# Altium integrated library Freescale MPC5200.IntLib: 10 symbols (part 2 of 2)
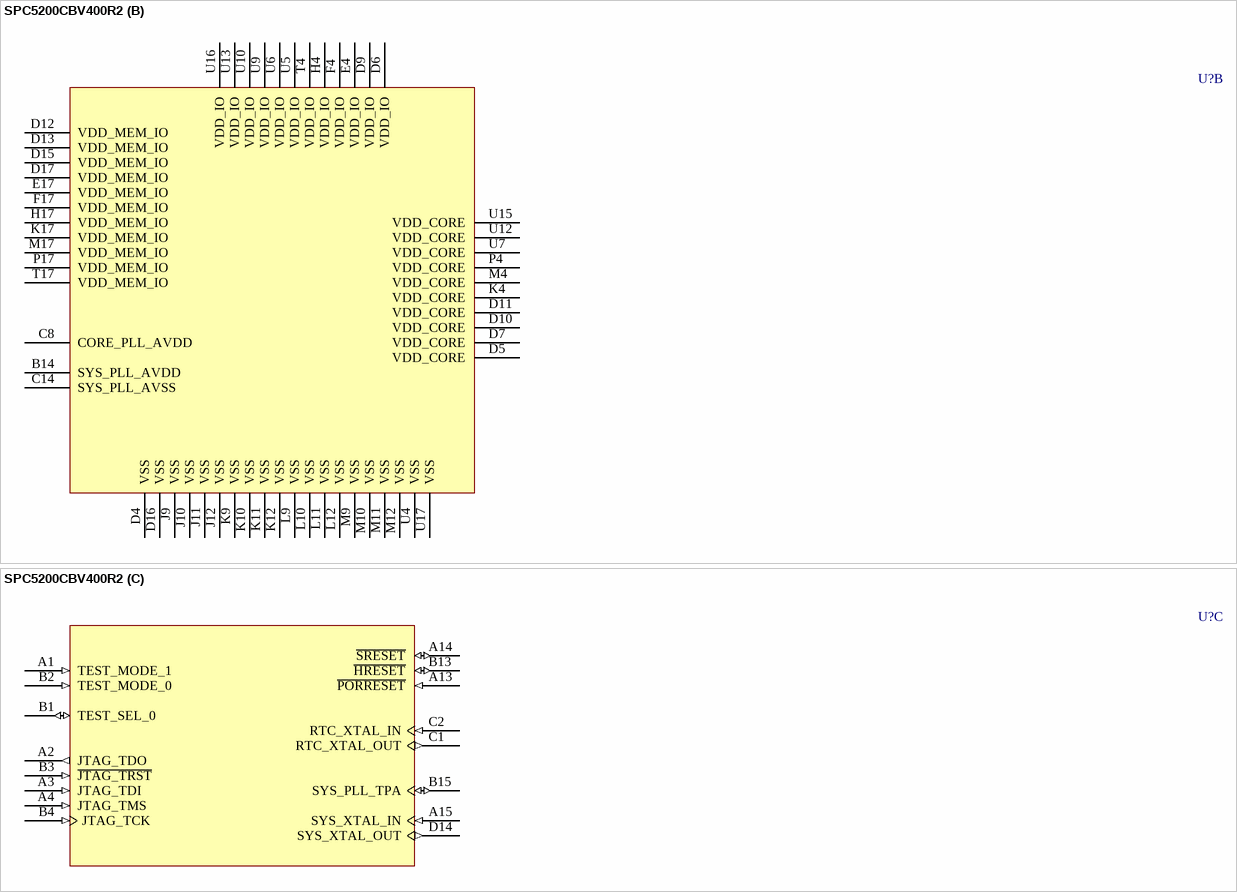
[diagram p20: symbol SPC5200CBV400R2]

## SPC5200CBV400R2
designator U?
32-Bit MPC5200 Embedded PowerPC Processor; Published: 6-Oct-2005; DatasheetVersion: rev4, Jan-2005; PackageVersion: revF, Apr-2005; PackageReference: 1135A-02; Publisher: Altium Limited; PackageDescription: 272-Ball Plastic Ball Grid Array - Thermally Enhanced; Code_JEDEC: MS-034-BAL-2; ComponentLink1Description: Manufacturer Link; ComponentLink1URL: http://www.freescale.com/webapp/sps/site/prod_summary.jsp?code=MPC5200&nodeId=0162468rH3bTdG0898; ComponentLink2Description: Datasheet; ComponentLink2URL: http://www.freescale.com/files/microcontrollers/doc/data_sheet/MPC5200.pdf; ComponentLink3Description: Packaging Specification; ComponentLink3URL: http://www.freescale.com/files/shared/doc/package_info/98ASS23712W.pdf
footprint 1135A-02 (BGA, 272-Leads, Body 27x27mm, Pitch 1.27mm)
part A pins: A5 PSC3_8 (io), A6 PSC3_5 (io), A7 PSC3_2 (io), A8 PSC2_4 (io), A9 PSC2_2 (io), A10 PSC1_4 (io), A11 PSC1_1 (io), A12 PSC6_2 (io), A16 MEM_MA_1 (out), A17 MEM_MBA_1 (out), A18 ~{MEM_RAS} (out), A19 ~{MEM_WE} (out), A20 MEM_DQM_2 (out), B5 PSC3_7 (io), B6 PSC3_4 (io), B7 PSC3_1 (io), B8 PSC2_3 (io), B9 PSC2_1 (io), B10 PSC1_3 (io), B11 PSC1_0 (io), B12 PSC6_0 (io), B16 MEM_MA_2 (out), B17 MEM_MA_10 (out), B18 ~{MEM_CS_0} (out), B19 ~{MEM_CAS} (out), B20 MEM_MA_4 (out), C3 TEST_SEL_1 (in), C4 PSC3_9 (io), C5 PSC3_6 (io), C6 PSC3_3 (io), C7 PSC3_0 (io), C9 PSC2_0 (io), C10 PSC1_2 (io), C11 PSC6_1 (io), C12 GPIO_WKUP_7 (io), C13 PSC6_3 (io), C15 GPIO_WKUP_6 (io), C16 MEM_MA_3 (out), C17 MEM_MA_0 (out), C18 MEM_MBA_0 (out), C19 MEM_MA_5 (out), C20 MEM_MA_6 (out), D1 TIMER_4 (io), D2 TIMER_3 (io), D3 TIMER_2 (io), D8 ~{LP_OE} (out), D18 MEM_MDQS_2 (out), D19 MEM_MA_7 (out), D20 MEM_MA_8 (out), E1 TIMER_7 (io), E2 TIMER_6 (io), E3 TIMER_5 (io), E18 MEM_MDQ_16 (io), E19 MEM_MA_9 (out), E20 MEM_MA_11 (out), F1 USB_7 (io), F2 USB_8 (io), F3 USB_9 (io), F18 MEM_MDQ_17 (io), F19 MEM_MA_12 (out), F20 MEM_CLK_EN (out), G1 USB_3 (in), G2 USB_4 (in), G3 USB_5 (in), G4 USB_6 (io), G17 MEM_MDQ_18 (io), G18 MEM_MDQ_19 (io), G19 MEM_MEMCLK (out), G20 ~{MEM_MEMCLK} (out), H1 USB_0 (io), H2 USB_1 (io), H3 USB_2 (io), H18 MEM_MDQ_20 (io), H19 MEM_DQM_1 (out), H20 MEM_MDQS_1 (out), J1 ETH_3 (io), J2 ETH_4 (io), J3 ETH_10 (io), J4 ETH_17 (io), J17 MEM_MDQ_22 (io), J18 MEM_MDQ_21 (io), J19 MEM_MDQ_8 (io), J20 MEM_MDQ_9 (io), K1 ETH_0 (io), K2 ETH_1 (io), K3 ETH_2 (io), K18 MEM_MDQ_23 (io), K19 MEM_MDQ_10 (io), K20 MEM_MDQ_11 (io), L1 ETH_9 (io), L2 ETH_16 (io), L3 ETH_5 (io), L4 ETH_11 (io), L17 MEM_DQM_3 (out), L18 MEM_MDQS_3 (out), L19 MEM_MDQ_12 (io), L20 MEM_MDQ_13 (io), M1 ETH_13 (io), M2 ETH_12 (io), M3 ETH_8 (io), M18 MEM_MDQ_24 (io), M19 MEM_MDQ_14 (io), M20 MEM_MDQ_15 (io), N1 ETH_7 (io), N2 ETH_6 (io), N3 ETH_15 (io), N4 ETH_14 (io), N17 MEM_MDQ_25 (io), N18 MEM_MDQ_26 (io), N19 MEM_DQM_0 (out), N20 MEM_MDQS_0 (out), P1 ~{IRQ_1} (in), P2 ~{IRQ_2} (in), P3 ~{IRQ_0} (in), P18 MEM_MDQ_27 (io), P19 MEM_MDQ_7 (io), P20 MEM_MDQ_6 (io), R1 ~{IRQ_3} (in), R2 ~{PCI_RESET} (out), R3 EXT_AD_30 (io), R4 ~{PCI_GNT} (out), R17 MEM_MDQ_28 (io), R18 MEM_MDQ_29 (io), R19 MEM_MDQ_5 (io), R20 MEM_MDQ_4 (io), T1 PCI_CLOCK (out), T2 EXT_AD_26 (io), T3 EXT_AD_28 (io), T18 MEM_MDQ_30 (io), T19 MEM_MDQ_3 (io), T20 MEM_MDQ_2 (io), U1 ~{PCI_REQ} (in), U2 PCI_IDSEL (in), U3 EXT_AD_24 (io), U8 EXT_AD_15 (io), U11 EXT_AD_6 (io), U14 LP_ACK (in), U18 MEM_MDQ_31 (io), U19 MEM_MDQ_1 (io), U20 MEM_MDQ_0 (io), V1 EXT_AD_31 (io), V2 EXT_AD_20 (io), V3 EXT_AD_22 (io), V4 EXT_AD_18 (io), V5 ~{PCI_FRAME} (io), V6 ~{PCI_STOP} (io), V7 PCI_PAR (io), V8 EXT_AD_13 (io), V9 EXT_AD_11 (io), V10 EXT_AD_9 (io), V11 EXT_AD_4 (io), V12 EXT_AD_2 (io), V13 EXT_AD_0 (io), V14 ~{LP_ALE} (io), V15 ~{LP_CS2} (out), V16 ~{LP_CS5} (out), V17 ATA_DRQ (in), V18 TIMER1 (io), V19 I2C_0 (io), V20 I2C_2 (io), W1 EXT_AD_29 (io), W2 EXT_AD_25 (io), W3 EXT_AD_23 (io), W4 EXT_AD_16 (io), W5 ~{PCI_TRDY} (io), W6 ~{PCI_C/BE_2} (io), W7 ~{PCI_DEVSEL} (io), W8 ~{PCI_SERR} (io), W9 EXT_AD_14 (io), W10 ~{PCI_C/BE_0} (io), W11 EXT_AD_8 (io), W12 EXT_AD_5 (io), W13 EXT_AD_1 (io), W14 ~{LP_CS0} (out), W15 ~{LP_CS3} (out), W16 ~{LP_RW} (io), W17 ~{ATA_IOW} (io), W18 ATA_IOCHDRY (in), W19 I2C_1 (io), W20 I2C_3 (io), Y1 EXT_AD_27 (io), Y2 ~{PCI_C/BE_3} (io), Y3 EXT_AD_21 (io), Y4 EXT_AD_19 (io), Y5 EXT_AD_17 (io), Y6 ~{PCI_IRDY} (io), Y7 ~{PCI_PERR} (io), Y8 ~{PCI_C/BE_1} (io), Y9 EXT_AD_12 (io), Y10 EXT_AD_10 (io), Y11 EXT_AD_7 (io), Y12 EXT_AD_3 (io), Y13 ~{LP_TS} (io), Y14 ~{LP_CS1} (out), Y15 ~{LP_CS4} (out), Y16 ATA_ISOLATION (out), Y17 ~{ATA_IOR} (io), Y18 ~{ATA_DACK} (io), Y19 ATA_INTRQ (in), Y20 TIMER_0 (io)
part B pins: B14 SYS_PLL_AVDD (power), C8 CORE_PLL_AVDD (power), C14 SYS_PLL_AVSS (power), D4 VSS (power), D5 VDD_CORE (power), D6 VDD_IO (power), D7 VDD_CORE (power), D9 VDD_IO (power), D10 VDD_CORE (power), D11 VDD_CORE (power), D12 VDD_MEM_IO (power), D13 VDD_MEM_IO (power), D15 VDD_MEM_IO (power), D16 VSS (power), D17 VDD_MEM_IO (power), E4 VDD_IO (power), E17 VDD_MEM_IO (power), F4 VDD_IO (power), F17 VDD_MEM_IO (power), H4 VDD_IO (power), H17 VDD_MEM_IO (power), J9 VSS (power), J10 VSS (power), J11 VSS (power), J12 VSS (power), K4 VDD_CORE (power), K9 VSS (power), K10 VSS (power), K11 VSS (power), K12 VSS (power), K17 VDD_MEM_IO (power), L9 VSS (power), L10 VSS (power), L11 VSS (power), L12 VSS (power), M4 VDD_CORE (power), M9 VSS (power), M10 VSS (power), M11 VSS (power), M12 VSS (power), M17 VDD_MEM_IO (power), P4 VDD_CORE (power), P17 VDD_MEM_IO (power), T4 VDD_IO (power), T17 VDD_MEM_IO (power), U4 VSS (power), U5 VDD_IO (power), U6 VDD_IO (power), U7 VDD_CORE (power), U9 VDD_IO (power), U10 VDD_IO (power), U12 VDD_CORE (power), U13 VDD_IO (power), U15 VDD_CORE (power), U16 VDD_IO (power), U17 VSS (power)
part C pins: A1 TEST_MODE_1 (in), A2 JTAG_TDO (out), A3 JTAG_TDI (in), A4 JTAG_TMS (in), A13 ~{PORRESET} (in), A14 ~{SRESET} (io), A15 SYS_XTAL_IN (in), B1 TEST_SEL_0 (io), B2 TEST_MODE_0 (in), B3 ~{JTAG_TRST} (in), B4 JTAG_TCK (in), B13 ~{HRESET} (io), B15 SYS_PLL_TPA (io), C1 RTC_XTAL_OUT (out), C2 RTC_XTAL_IN (in), D14 SYS_XTAL_OUT (out)

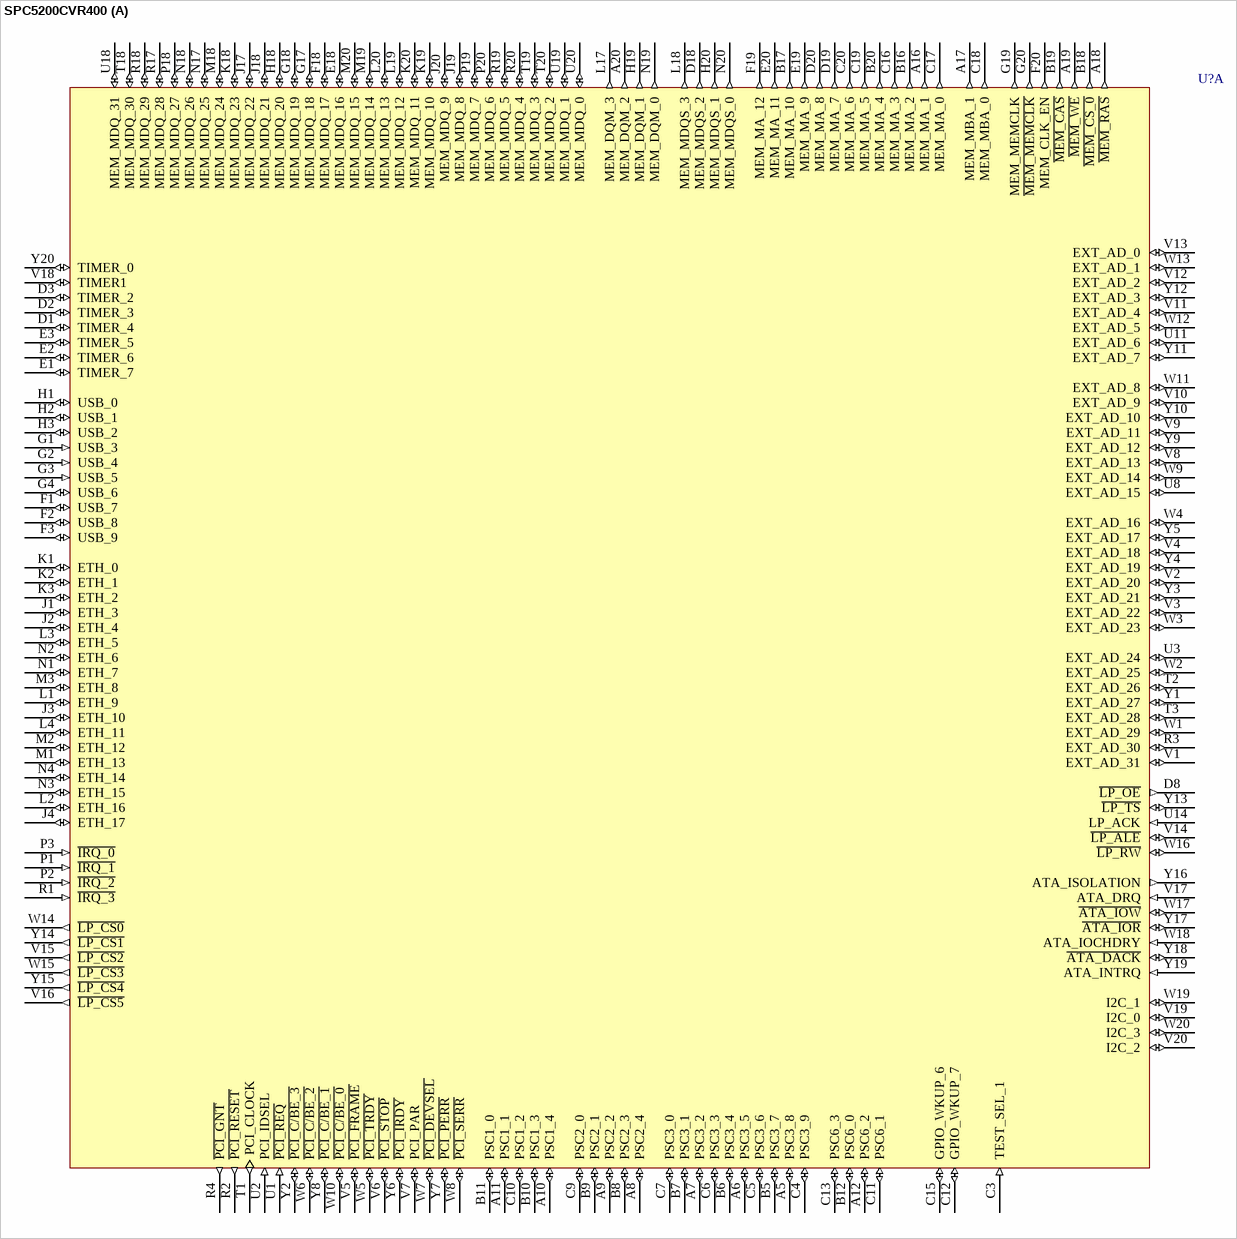
[diagram p18: symbol SPC5200CVR400]

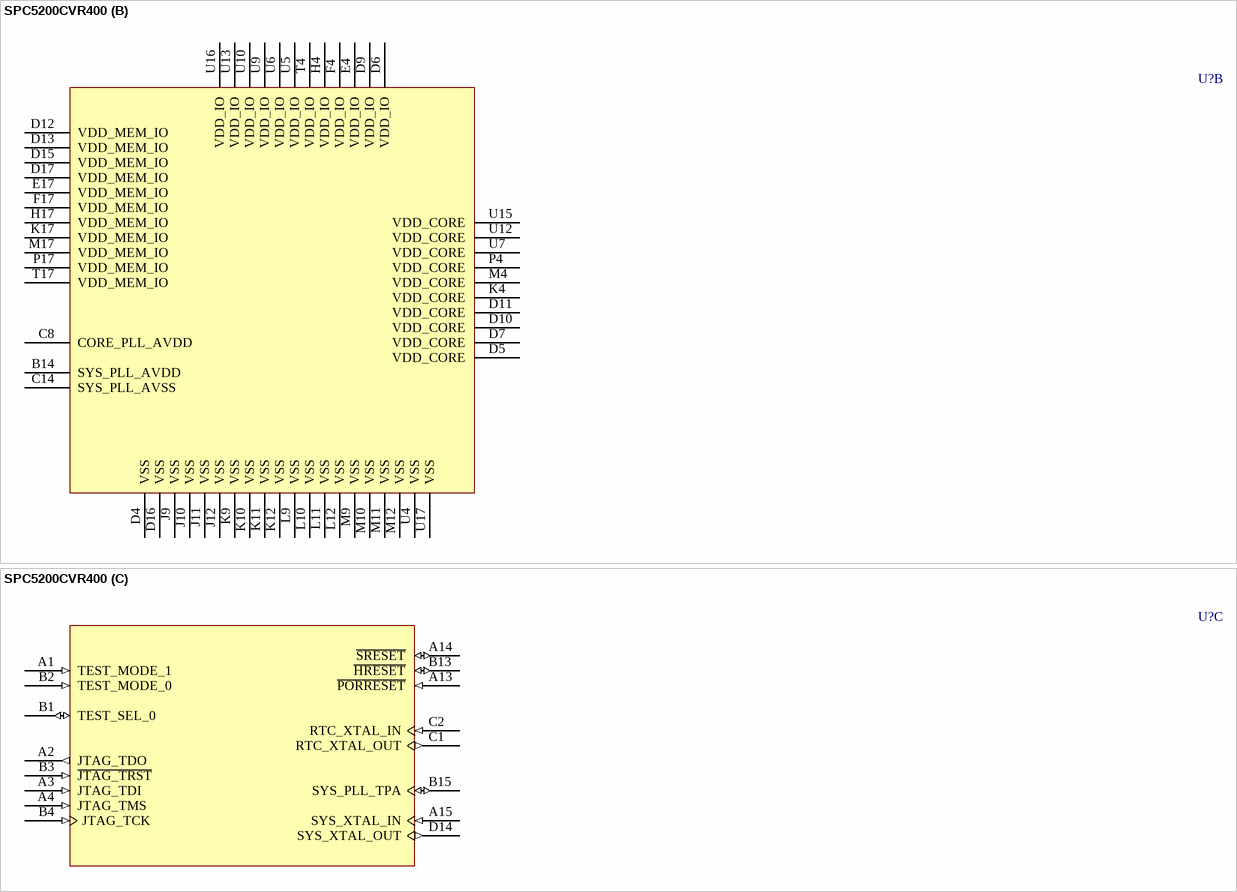
[diagram p19: symbol SPC5200CVR400]

## SPC5200CVR400
designator U?
32-Bit MPC5200 Embedded PowerPC Processor; Published: 6-Oct-2005; DatasheetVersion: rev4, Jan-2005; PackageVersion: revF, Apr-2005; PackageReference: 1135A-02; Publisher: Altium Limited; PackageDescription: 272-Ball Plastic Ball Grid Array - Thermally Enhanced; Code_JEDEC: MS-034-BAL-2; ComponentLink1Description: Manufacturer Link; ComponentLink1URL: http://www.freescale.com/webapp/sps/site/prod_summary.jsp?code=MPC5200&nodeId=0162468rH3bTdG0898; ComponentLink2Description: Datasheet; ComponentLink2URL: http://www.freescale.com/files/microcontrollers/doc/data_sheet/MPC5200.pdf; ComponentLink3Description: Packaging Specification; ComponentLink3URL: http://www.freescale.com/files/shared/doc/package_info/98ASS23712W.pdf
footprint 1135A-02 (BGA, 272-Leads, Body 27x27mm, Pitch 1.27mm)
part A pins: A5 PSC3_8 (io), A6 PSC3_5 (io), A7 PSC3_2 (io), A8 PSC2_4 (io), A9 PSC2_2 (io), A10 PSC1_4 (io), A11 PSC1_1 (io), A12 PSC6_2 (io), A16 MEM_MA_1 (out), A17 MEM_MBA_1 (out), A18 ~{MEM_RAS} (out), A19 ~{MEM_WE} (out), A20 MEM_DQM_2 (out), B5 PSC3_7 (io), B6 PSC3_4 (io), B7 PSC3_1 (io), B8 PSC2_3 (io), B9 PSC2_1 (io), B10 PSC1_3 (io), B11 PSC1_0 (io), B12 PSC6_0 (io), B16 MEM_MA_2 (out), B17 MEM_MA_10 (out), B18 ~{MEM_CS_0} (out), B19 ~{MEM_CAS} (out), B20 MEM_MA_4 (out), C3 TEST_SEL_1 (in), C4 PSC3_9 (io), C5 PSC3_6 (io), C6 PSC3_3 (io), C7 PSC3_0 (io), C9 PSC2_0 (io), C10 PSC1_2 (io), C11 PSC6_1 (io), C12 GPIO_WKUP_7 (io), C13 PSC6_3 (io), C15 GPIO_WKUP_6 (io), C16 MEM_MA_3 (out), C17 MEM_MA_0 (out), C18 MEM_MBA_0 (out), C19 MEM_MA_5 (out), C20 MEM_MA_6 (out), D1 TIMER_4 (io), D2 TIMER_3 (io), D3 TIMER_2 (io), D8 ~{LP_OE} (out), D18 MEM_MDQS_2 (out), D19 MEM_MA_7 (out), D20 MEM_MA_8 (out), E1 TIMER_7 (io), E2 TIMER_6 (io), E3 TIMER_5 (io), E18 MEM_MDQ_16 (io), E19 MEM_MA_9 (out), E20 MEM_MA_11 (out), F1 USB_7 (io), F2 USB_8 (io), F3 USB_9 (io), F18 MEM_MDQ_17 (io), F19 MEM_MA_12 (out), F20 MEM_CLK_EN (out), G1 USB_3 (in), G2 USB_4 (in), G3 USB_5 (in), G4 USB_6 (io), G17 MEM_MDQ_18 (io), G18 MEM_MDQ_19 (io), G19 MEM_MEMCLK (out), G20 ~{MEM_MEMCLK} (out), H1 USB_0 (io), H2 USB_1 (io), H3 USB_2 (io), H18 MEM_MDQ_20 (io), H19 MEM_DQM_1 (out), H20 MEM_MDQS_1 (out), J1 ETH_3 (io), J2 ETH_4 (io), J3 ETH_10 (io), J4 ETH_17 (io), J17 MEM_MDQ_22 (io), J18 MEM_MDQ_21 (io), J19 MEM_MDQ_8 (io), J20 MEM_MDQ_9 (io), K1 ETH_0 (io), K2 ETH_1 (io), K3 ETH_2 (io), K18 MEM_MDQ_23 (io), K19 MEM_MDQ_10 (io), K20 MEM_MDQ_11 (io), L1 ETH_9 (io), L2 ETH_16 (io), L3 ETH_5 (io), L4 ETH_11 (io), L17 MEM_DQM_3 (out), L18 MEM_MDQS_3 (out), L19 MEM_MDQ_12 (io), L20 MEM_MDQ_13 (io), M1 ETH_13 (io), M2 ETH_12 (io), M3 ETH_8 (io), M18 MEM_MDQ_24 (io), M19 MEM_MDQ_14 (io), M20 MEM_MDQ_15 (io), N1 ETH_7 (io), N2 ETH_6 (io), N3 ETH_15 (io), N4 ETH_14 (io), N17 MEM_MDQ_25 (io), N18 MEM_MDQ_26 (io), N19 MEM_DQM_0 (out), N20 MEM_MDQS_0 (out), P1 ~{IRQ_1} (in), P2 ~{IRQ_2} (in), P3 ~{IRQ_0} (in), P18 MEM_MDQ_27 (io), P19 MEM_MDQ_7 (io), P20 MEM_MDQ_6 (io), R1 ~{IRQ_3} (in), R2 ~{PCI_RESET} (out), R3 EXT_AD_30 (io), R4 ~{PCI_GNT} (out), R17 MEM_MDQ_28 (io), R18 MEM_MDQ_29 (io), R19 MEM_MDQ_5 (io), R20 MEM_MDQ_4 (io), T1 PCI_CLOCK (out), T2 EXT_AD_26 (io), T3 EXT_AD_28 (io), T18 MEM_MDQ_30 (io), T19 MEM_MDQ_3 (io), T20 MEM_MDQ_2 (io), U1 ~{PCI_REQ} (in), U2 PCI_IDSEL (in), U3 EXT_AD_24 (io), U8 EXT_AD_15 (io), U11 EXT_AD_6 (io), U14 LP_ACK (in), U18 MEM_MDQ_31 (io), U19 MEM_MDQ_1 (io), U20 MEM_MDQ_0 (io), V1 EXT_AD_31 (io), V2 EXT_AD_20 (io), V3 EXT_AD_22 (io), V4 EXT_AD_18 (io), V5 ~{PCI_FRAME} (io), V6 ~{PCI_STOP} (io), V7 PCI_PAR (io), V8 EXT_AD_13 (io), V9 EXT_AD_11 (io), V10 EXT_AD_9 (io), V11 EXT_AD_4 (io), V12 EXT_AD_2 (io), V13 EXT_AD_0 (io), V14 ~{LP_ALE} (io), V15 ~{LP_CS2} (out), V16 ~{LP_CS5} (out), V17 ATA_DRQ (in), V18 TIMER1 (io), V19 I2C_0 (io), V20 I2C_2 (io), W1 EXT_AD_29 (io), W2 EXT_AD_25 (io), W3 EXT_AD_23 (io), W4 EXT_AD_16 (io), W5 ~{PCI_TRDY} (io), W6 ~{PCI_C/BE_2} (io), W7 ~{PCI_DEVSEL} (io), W8 ~{PCI_SERR} (io), W9 EXT_AD_14 (io), W10 ~{PCI_C/BE_0} (io), W11 EXT_AD_8 (io), W12 EXT_AD_5 (io), W13 EXT_AD_1 (io), W14 ~{LP_CS0} (out), W15 ~{LP_CS3} (out), W16 ~{LP_RW} (io), W17 ~{ATA_IOW} (io), W18 ATA_IOCHDRY (in), W19 I2C_1 (io), W20 I2C_3 (io), Y1 EXT_AD_27 (io), Y2 ~{PCI_C/BE_3} (io), Y3 EXT_AD_21 (io), Y4 EXT_AD_19 (io), Y5 EXT_AD_17 (io), Y6 ~{PCI_IRDY} (io), Y7 ~{PCI_PERR} (io), Y8 ~{PCI_C/BE_1} (io), Y9 EXT_AD_12 (io), Y10 EXT_AD_10 (io), Y11 EXT_AD_7 (io), Y12 EXT_AD_3 (io), Y13 ~{LP_TS} (io), Y14 ~{LP_CS1} (out), Y15 ~{LP_CS4} (out), Y16 ATA_ISOLATION (out), Y17 ~{ATA_IOR} (io), Y18 ~{ATA_DACK} (io), Y19 ATA_INTRQ (in), Y20 TIMER_0 (io)
part B pins: B14 SYS_PLL_AVDD (power), C8 CORE_PLL_AVDD (power), C14 SYS_PLL_AVSS (power), D4 VSS (power), D5 VDD_CORE (power), D6 VDD_IO (power), D7 VDD_CORE (power), D9 VDD_IO (power), D10 VDD_CORE (power), D11 VDD_CORE (power), D12 VDD_MEM_IO (power), D13 VDD_MEM_IO (power), D15 VDD_MEM_IO (power), D16 VSS (power), D17 VDD_MEM_IO (power), E4 VDD_IO (power), E17 VDD_MEM_IO (power), F4 VDD_IO (power), F17 VDD_MEM_IO (power), H4 VDD_IO (power), H17 VDD_MEM_IO (power), J9 VSS (power), J10 VSS (power), J11 VSS (power), J12 VSS (power), K4 VDD_CORE (power), K9 VSS (power), K10 VSS (power), K11 VSS (power), K12 VSS (power), K17 VDD_MEM_IO (power), L9 VSS (power), L10 VSS (power), L11 VSS (power), L12 VSS (power), M4 VDD_CORE (power), M9 VSS (power), M10 VSS (power), M11 VSS (power), M12 VSS (power), M17 VDD_MEM_IO (power), P4 VDD_CORE (power), P17 VDD_MEM_IO (power), T4 VDD_IO (power), T17 VDD_MEM_IO (power), U4 VSS (power), U5 VDD_IO (power), U6 VDD_IO (power), U7 VDD_CORE (power), U9 VDD_IO (power), U10 VDD_IO (power), U12 VDD_CORE (power), U13 VDD_IO (power), U15 VDD_CORE (power), U16 VDD_IO (power), U17 VSS (power)
part C pins: A1 TEST_MODE_1 (in), A2 JTAG_TDO (out), A3 JTAG_TDI (in), A4 JTAG_TMS (in), A13 ~{PORRESET} (in), A14 ~{SRESET} (io), A15 SYS_XTAL_IN (in), B1 TEST_SEL_0 (io), B2 TEST_MODE_0 (in), B3 ~{JTAG_TRST} (in), B4 JTAG_TCK (in), B13 ~{HRESET} (io), B15 SYS_PLL_TPA (io), C1 RTC_XTAL_OUT (out), C2 RTC_XTAL_IN (in), D14 SYS_XTAL_OUT (out)